# Altium schematic symbol library SCH - CHARGER - SKYWORKS AAT3681A.SCHLIB: 1 symbol
Pins are listed as number, name and electrical type; pins without a type are passive.

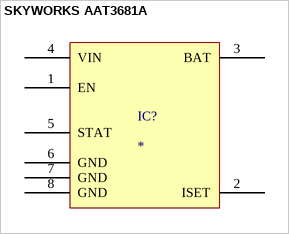
[diagram p0: symbol SKYWORKS AAT3681A]

## SKYWORKS AAT3681A
designator IC?
pins: 1 EN, 2 ISET, 3 BAT, 4 VIN, 5 STAT, 6 GND, 7 GND, 8 GND